# Altium footprint library Module.PcbLib: 21 footprints (part 1 of 2)
Each footprint in its own frame and in the unit in brackets; x right, y up, seen from the top. Pads: shape width x height; smd on the part's side, far side on the other; paste and mask are expansions set on the pad; w line width, h text height; cw(c..) or ccw(c..) is an arc to the next point about the centre after c.
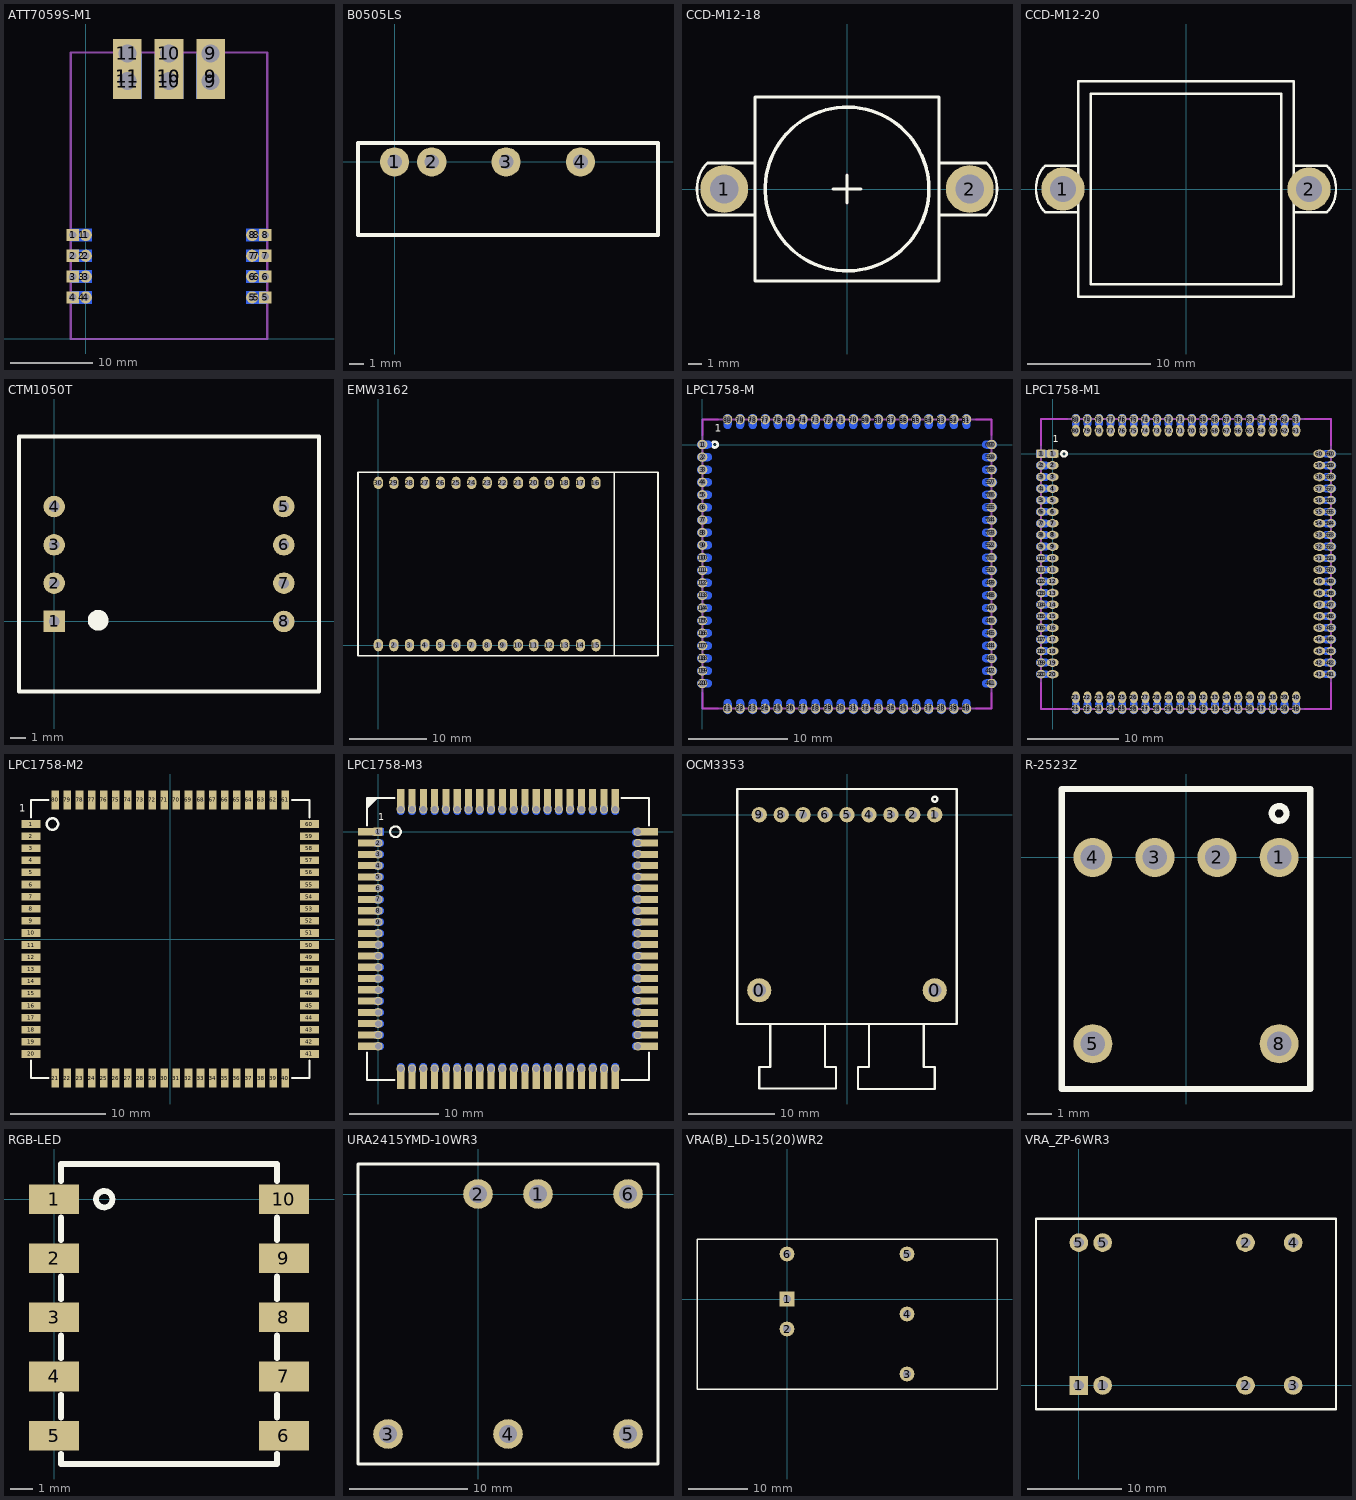
[diagram p0: the footprints below, top view; thin cyan lines are the x and y axes]

## ATT7059S-M1 [mm]
pads (36):
  rect 1.5x1.5 hole 0.9: 1(-1.6,12.7) 2(-1.6,10.16) 3(-1.6,7.62) 4(-1.6,5.08) 5(21.92,5.08) 6(21.92,7.62) 7(21.92,10.16) 8(21.92,12.7)
  rect 2.5x1.5 smd far side: 1(-0.5,12.7) 2(-0.5,10.16) 3(-0.5,7.62) 4(-0.5,5.08) 5(20.82,5.08) 6(20.82,7.62) 7(20.82,10.16) 8(20.82,12.7)
  round 1.5 hole 0.9: 1(0,12.7) 2(0,10.16) 3(0,7.62) 4(0,5.08) 5(20.32,5.08) 6(20.32,7.62) 7(20.32,10.16) 8(20.32,12.7)
  round 3.5 hole 2.2: 9(15.24,31.48) 10(10.16,31.48) 11(5.08,31.48)
  rect 3.5x5.5 smd far side: 9(15.24,32.08) 10(10.16,32.08) 11(5.08,32.08)
  rect 3.5x5.5 smd: 9(15.24,32.08) 10(10.16,32.08) 11(5.08,32.08)
  rect 3.5x3.5 hole 2.2: 9(15.24,34.88) 10(10.16,34.88) 11(5.08,34.88)
Mechanical 1:
  lines w0.254: -1.84,0 22.16,0 22.16,35 -1.84,35 -1.84,0

## B0505LS [mm] "DC-DC 5V-5V B0505LS-1W"
pads (4):
  round 2 hole 1: 1(0,0) 2(2.54,0) 3(7.62,0) 4(12.7,0)
Top Overlay:
  lines w0.254: -2.5,-5 18,-5 18,1.3 -2.5,1.3 -2.5,-5

## CCD-M12-18 [mm] "CCD-M12-18"
pads (2):
  round 3.5 hole 2.1: 1(-9,0) 2(9,0)
Top Overlay:
  circle w0.254: c0,0 r6
  lines w0.2: -6.75,-1.905 -10.23,-1.905 cw(c-8.39,-0.065) -10.992,-0.065 -10.992,0.065 cw(c-8.39,0.065) -10.23,1.905 -6.75,1.905 ; 6.75,1.905 10.23,1.905 cw(c8.39,0.065) 10.992,0.065 10.992,-0.065 cw(c8.39,-0.065) 10.23,-1.905 6.8,-1.905 ; -6.75,-6.75 -6.75,6.75 6.75,6.75 6.75,-6.75 -6.75,-6.75
  lines w0.254: -1,0 1,0 ; 0,-1 0,1

## CCD-M12-20 [mm] "CCD-M12-20"
pads (2):
  round 3.5 hole 2.1: 1(-10,0) 2(10,0)
Top Overlay:
  lines w0.2: -8.75,-1.905 -11.43,-1.905 cw(c-9.59,-0.065) -12.192,-0.065 -12.192,0.065 cw(c-9.59,0.065) -11.43,1.905 -8.75,1.905 ; -7.75,-7.75 -7.75,7.75 7.75,7.75 7.75,-7.75 ; -7.747,-7.747 7.75,-7.747 ; 8.75,-1.905 11.43,-1.905 ccw(c9.59,-0.065) 12.192,-0.065 12.192,0.065 ccw(c9.59,0.065) 11.43,1.905 8.763,1.905 ; -8.75,-8.75 8.75,-8.75 8.75,8.75 -8.75,8.75 -8.75,-8.75

## CTM1050T [mil] "zlg can module"
height 9.5
pads (8):
  rect 56x56 hole 28: 1(0,0)
  round 56 hole 28: 2(0,100) 3(0,200) 4(0,300) 5(600,300) 6(600,200) 7(600,100) 8(600,0)
Top Overlay:
  circle w30: c115,3 r12
  lines w10: -91.73,-182.68 -91.73,482.68 691.73,482.68 691.73,-182.68 -91.73,-182.68

## EMW3162 [mm]
pads (30):
  oval 1.2x1.6 hole 0.8: 1(0,0) 2(2,0) 3(4,0) 4(6,0) 5(8,0) 6(10,0) 7(12,0) 8(14,0) 9(16,0) 10(18,0) 11(20,0) 12(22,0) 13(24,0) 14(26,0) 15(28,0) 16(28,20.88) 17(26,20.88) 18(24,20.88) 19(22,20.88) 20(20,20.88) 21(18,20.88) 22(16,20.88) 23(14,20.88) 24(12,20.88) 25(10,20.88) 26(8,20.88) 27(6,20.88) 28(4,20.88) 29(2,20.88) 30(0,20.88)
Top Overlay:
  lines w0.2: 30.353,-1.37 30.353,22.25 ; -2.62,-1.37 -2.62,22.25 35.98,22.25 35.98,-1.37 -2.62,-1.37
3D body: height 5.6, standoff 0, extent -2.72,-1.47 36.08,22.35

## LPC1758-M [mm] "LPC1758 Module"
pads (160):
  oval 1x0.94 hole 0.7 mask+0.051: 1(0,0) 2(0,-1.27) 3(0,-2.54) 4(0,-3.81) 5(0,-5.08) 6(0,-6.35) 7(0,-7.62) 8(0,-8.89) 9(0,-10.16) 10(0,-11.43) 11(0,-12.7) 12(0,-13.97) 13(0,-15.24) 14(0,-16.51) 15(0,-17.78) 16(0,-19.05) 17(0,-20.32) 18(0,-21.59) 19(0,-22.86) 20(0,-24.13) 41(29.21,-24.13) 42(29.21,-22.86) 43(29.21,-21.59) 44(29.21,-20.32) 45(29.21,-19.05) 46(29.21,-17.78) 47(29.21,-16.51) 48(29.21,-15.24) 49(29.21,-13.97) 50(29.21,-12.7) 51(29.21,-11.43) 52(29.21,-10.16) 53(29.21,-8.89) 54(29.21,-7.62) 55(29.21,-6.35) 56(29.21,-5.08) 57(29.21,-3.81) 58(29.21,-2.54) 59(29.21,-1.27) 60(29.21,0)
  oval 1.5x0.8 smd far side mask+0.051: 1(0.203,0) 2(0.203,-1.27) 3(0.203,-2.54) 4(0.203,-3.81) 5(0.203,-5.08) 6(0.203,-6.35) 7(0.203,-7.62) 8(0.203,-8.89) 9(0.203,-10.16) 10(0.203,-11.43) 11(0.203,-12.7) 12(0.203,-13.97) 13(0.203,-15.24) 14(0.203,-16.51) 15(0.203,-17.78) 16(0.203,-19.05) 17(0.203,-20.32) 18(0.203,-21.59) 19(0.203,-22.86) 20(0.203,-24.13) 41(29.007,-24.13) 42(29.007,-22.86) 43(29.007,-21.59) 44(29.007,-20.32) 45(29.007,-19.05) 46(29.007,-17.78) 47(29.007,-16.51) 48(29.007,-15.24) 49(29.007,-13.97) 50(29.007,-12.7) 51(29.007,-11.43) 52(29.007,-10.16) 53(29.007,-8.89) 54(29.007,-7.62) 55(29.007,-6.35) 56(29.007,-5.08) 57(29.007,-3.81) 58(29.007,-2.54) 59(29.007,-1.27) 60(29.007,0)
  oval 0.94x1 hole 0.7 mask+0.051: 21(2.54,-26.67) 22(3.81,-26.67) 23(5.08,-26.67) 24(6.35,-26.67) 25(7.62,-26.67) 26(8.89,-26.67) 27(10.16,-26.67) 28(11.43,-26.67) 29(12.7,-26.67) 30(13.97,-26.67) 31(15.24,-26.67) 32(16.51,-26.67) 33(17.78,-26.67) 34(19.05,-26.67) 35(20.32,-26.67) 36(21.59,-26.67) 37(22.86,-26.67) 38(24.13,-26.67) 39(25.4,-26.67) 40(26.67,-26.67) 61(26.67,2.54) 62(25.4,2.54) 63(24.13,2.54) 64(22.86,2.54) 65(21.59,2.54) 66(20.32,2.54) 67(19.05,2.54) 68(17.78,2.54) 69(16.51,2.54) 70(15.24,2.54) 71(13.97,2.54) 72(12.7,2.54) 73(11.43,2.54) 74(10.16,2.54) 75(8.89,2.54) 76(7.62,2.54) 77(6.35,2.54) 78(5.08,2.54) 79(3.81,2.54) 80(2.54,2.54)
  oval 0.8x1.5 smd far side mask+0.051: 21(2.54,-26.467) 22(3.81,-26.467) 23(5.08,-26.467) 24(6.35,-26.467) 25(7.62,-26.467) 26(8.89,-26.467) 27(10.16,-26.467) 28(11.43,-26.467) 29(12.7,-26.467) 30(13.97,-26.467) 31(15.24,-26.467) 32(16.51,-26.467) 33(17.78,-26.467) 34(19.05,-26.467) 35(20.32,-26.467) 36(21.59,-26.467) 37(22.86,-26.467) 38(24.13,-26.467) 39(25.4,-26.467) 40(26.67,-26.467) 61(26.67,2.337) 62(25.4,2.337) 63(24.13,2.337) 64(22.86,2.337) 65(21.59,2.337) 66(20.32,2.337) 67(19.05,2.337) 68(17.78,2.337) 69(16.51,2.337) 70(15.24,2.337) 71(13.97,2.337) 72(12.7,2.337) 73(11.43,2.337) 74(10.16,2.337) 75(8.89,2.337) 76(7.62,2.337) 77(6.35,2.337) 78(5.08,2.337) 79(3.81,2.337) 80(2.54,2.337)
Top Overlay:
  circle w0.254: c1.25,0 r0.3
  text "1" at 1.27,1.27 h0.76
Keep-Out Layer:
  lines w0.2: 0,-25.07 0,-26.67 1.6,-26.67 ; 0,0.94 0,2.54 1.6,2.54 ; 27.61,-26.67 29.21,-26.67 29.21,-25.07 ; 27.61,2.54 29.21,2.54 29.21,0.94
Mechanical 1:
  lines w0.2: 0,-26.67 0,2.54 29.21,2.54 29.21,-26.67 0,-26.67

## LPC1758-M1 [mm] "LPC1758 Module"
pads (320):
  rect 1x0.94 hole 0.7 mask+0.051: 1(-1.27,0) 1(0,0)
  rect 1.5x0.8 smd far side mask+0.051: 1(-1.067,0)
  rect 1.3x0.8 smd mask+0.051: 1(0,0)
  oval 1x0.94 hole 0.7 mask+0.051: 2(-1.27,-1.27) 2(0,-1.27) 3(-1.27,-2.54) 3(0,-2.54) 4(-1.27,-3.81) 4(0,-3.81) 5(-1.27,-5.08) 5(0,-5.08) 6(-1.27,-6.35) 6(0,-6.35) 7(-1.27,-7.62) 7(0,-7.62) 8(-1.27,-8.89) 8(0,-8.89) 9(-1.27,-10.16) 9(0,-10.16) 10(-1.27,-11.43) 10(0,-11.43) 11(-1.27,-12.7) 11(0,-12.7) 12(-1.27,-13.97) 12(0,-13.97) 13(-1.27,-15.24) 13(0,-15.24) 14(-1.27,-16.51) 14(0,-16.51) 15(-1.27,-17.78) 15(0,-17.78) 16(-1.27,-19.05) 16(0,-19.05) 17(-1.27,-20.32) 17(0,-20.32) 18(-1.27,-21.59) 18(0,-21.59) 19(-1.27,-22.86) 19(0,-22.86) 20(-1.27,-24.13) 20(0,-24.13) 41(29.21,-24.13) 41(30.48,-24.13) 42(29.21,-22.86) 42(30.48,-22.86) 43(29.21,-21.59) 43(30.48,-21.59) 44(29.21,-20.32) 44(30.48,-20.32) 45(29.21,-19.05) 45(30.48,-19.05) 46(29.21,-17.78) 46(30.48,-17.78) 47(29.21,-16.51) 47(30.48,-16.51) 48(29.21,-15.24) 48(30.48,-15.24) 49(29.21,-13.97) 49(30.48,-13.97) 50(29.21,-12.7) 50(30.48,-12.7) 51(29.21,-11.43) 51(30.48,-11.43) 52(29.21,-10.16) 52(30.48,-10.16) 53(29.21,-8.89) 53(30.48,-8.89) 54(29.21,-7.62) 54(30.48,-7.62) 55(29.21,-6.35) 55(30.48,-6.35) 56(29.21,-5.08) 56(30.48,-5.08) 57(29.21,-3.81) 57(30.48,-3.81) 58(29.21,-2.54) 58(30.48,-2.54) 59(29.21,-1.27) 59(30.48,-1.27) 60(29.21,0) 60(30.48,0)
  oval 1.5x0.8 smd far side mask+0.051: 2(-1.067,-1.27) 3(-1.067,-2.54) 4(-1.067,-3.81) 5(-1.067,-5.08) 6(-1.067,-6.35) 7(-1.067,-7.62) 8(-1.067,-8.89) 9(-1.067,-10.16) 10(-1.067,-11.43) 11(-1.067,-12.7) 12(-1.067,-13.97) 13(-1.067,-15.24) 14(-1.067,-16.51) 15(-1.067,-17.78) 16(-1.067,-19.05) 17(-1.067,-20.32) 18(-1.067,-21.59) 19(-1.067,-22.86) 20(-1.067,-24.13) 41(30.277,-24.13) 42(30.277,-22.86) 43(30.277,-21.59) 44(30.277,-20.32) 45(30.277,-19.05) 46(30.277,-17.78) 47(30.277,-16.51) 48(30.277,-15.24) 49(30.277,-13.97) 50(30.277,-12.7) 51(30.277,-11.43) 52(30.277,-10.16) 53(30.277,-8.89) 54(30.277,-7.62) 55(30.277,-6.35) 56(30.277,-5.08) 57(30.277,-3.81) 58(30.277,-2.54) 59(30.277,-1.27) 60(30.277,0)
  oval 1.3x0.8 smd mask+0.051: 2(0,-1.27) 3(0,-2.54) 4(0,-3.81) 5(0,-5.08) 6(0,-6.35) 7(0,-7.62) 8(0,-8.89) 9(0,-10.16) 10(0,-11.43) 11(0,-12.7) 12(0,-13.97) 13(0,-15.24) 14(0,-16.51) 15(0,-17.78) 16(0,-19.05) 17(0,-20.32) 18(0,-21.59) 19(0,-22.86) 20(0,-24.13) 41(29.21,-24.13) 42(29.21,-22.86) 43(29.21,-21.59) 44(29.21,-20.32) 45(29.21,-19.05) 46(29.21,-17.78) 47(29.21,-16.51) 48(29.21,-15.24) 49(29.21,-13.97) 50(29.21,-12.7) 51(29.21,-11.43) 52(29.21,-10.16) 53(29.21,-8.89) 54(29.21,-7.62) 55(29.21,-6.35) 56(29.21,-5.08) 57(29.21,-3.81) 58(29.21,-2.54) 59(29.21,-1.27) 60(29.21,0)
  oval 0.94x1 hole 0.7 mask+0.051: 21(2.54,-27.94) 21(2.54,-26.67) 22(3.81,-27.94) 22(3.81,-26.67) 23(5.08,-27.94) 23(5.08,-26.67) 24(6.35,-27.94) 24(6.35,-26.67) 25(7.62,-27.94) 25(7.62,-26.67) 26(8.89,-27.94) 26(8.89,-26.67) 27(10.16,-27.94) 27(10.16,-26.67) 28(11.43,-27.94) 28(11.43,-26.67) 29(12.7,-27.94) 29(12.7,-26.67) 30(13.97,-27.94) 30(13.97,-26.67) 31(15.24,-27.94) 31(15.24,-26.67) 32(16.51,-27.94) 32(16.51,-26.67) 33(17.78,-27.94) 33(17.78,-26.67) 34(19.05,-27.94) 34(19.05,-26.67) 35(20.32,-27.94) 35(20.32,-26.67) 36(21.59,-27.94) 36(21.59,-26.67) 37(22.86,-27.94) 37(22.86,-26.67) 38(24.13,-27.94) 38(24.13,-26.67) 39(25.4,-27.94) 39(25.4,-26.67) 40(26.67,-27.94) 40(26.67,-26.67) 61(26.67,2.54) 61(26.67,3.81) 62(25.4,2.54) 62(25.4,3.81) 63(24.13,2.54) 63(24.13,3.81) 64(22.86,2.54) 64(22.86,3.81) 65(21.59,2.54) 65(21.59,3.81) 66(20.32,2.54) 66(20.32,3.81) 67(19.05,2.54) 67(19.05,3.81) 68(17.78,2.54) 68(17.78,3.81) 69(16.51,2.54) 69(16.51,3.81) 70(15.24,2.54) 70(15.24,3.81) 71(13.97,2.54) 71(13.97,3.81) 72(12.7,2.54) 72(12.7,3.81) 73(11.43,2.54) 73(11.43,3.81) 74(10.16,2.54) 74(10.16,3.81) 75(8.89,2.54) 75(8.89,3.81) 76(7.62,2.54) 76(7.62,3.81) 77(6.35,2.54) 77(6.35,3.81) 78(5.08,2.54) 78(5.08,3.81) 79(3.81,2.54) 79(3.81,3.81) 80(2.54,2.54) 80(2.54,3.81)
  oval 0.8x1.5 smd far side mask+0.051: 21(2.54,-27.737) 22(3.81,-27.737) 23(5.08,-27.737) 24(6.35,-27.737) 25(7.62,-27.737) 26(8.89,-27.737) 27(10.16,-27.737) 28(11.43,-27.737) 29(12.7,-27.737) 30(13.97,-27.737) 31(15.24,-27.737) 32(16.51,-27.737) 33(17.78,-27.737) 34(19.05,-27.737) 35(20.32,-27.737) 36(21.59,-27.737) 37(22.86,-27.737) 38(24.13,-27.737) 39(25.4,-27.737) 40(26.67,-27.737) 61(26.67,3.607) 62(25.4,3.607) 63(24.13,3.607) 64(22.86,3.607) 65(21.59,3.607) 66(20.32,3.607) 67(19.05,3.607) 68(17.78,3.607) 69(16.51,3.607) 70(15.24,3.607) 71(13.97,3.607) 72(12.7,3.607) 73(11.43,3.607) 74(10.16,3.607) 75(8.89,3.607) 76(7.62,3.607) 77(6.35,3.607) 78(5.08,3.607) 79(3.81,3.607) 80(2.54,3.607)
  oval 0.8x1.3 smd mask+0.051: 21(2.54,-26.67) 22(3.81,-26.67) 23(5.08,-26.67) 24(6.35,-26.67) 25(7.62,-26.67) 26(8.89,-26.67) 27(10.16,-26.67) 28(11.43,-26.67) 29(12.7,-26.67) 30(13.97,-26.67) 31(15.24,-26.67) 32(16.51,-26.67) 33(17.78,-26.67) 34(19.05,-26.67) 35(20.32,-26.67) 36(21.59,-26.67) 37(22.86,-26.67) 38(24.13,-26.67) 39(25.4,-26.67) 40(26.67,-26.67) 61(26.67,2.54) 62(25.4,2.54) 63(24.13,2.54) 64(22.86,2.54) 65(21.59,2.54) 66(20.32,2.54) 67(19.05,2.54) 68(17.78,2.54) 69(16.51,2.54) 70(15.24,2.54) 71(13.97,2.54) 72(12.7,2.54) 73(11.43,2.54) 74(10.16,2.54) 75(8.89,2.54) 76(7.62,2.54) 77(6.35,2.54) 78(5.08,2.54) 79(3.81,2.54) 80(2.54,2.54)
Top Overlay:
  circle w0.254: c1.25,0 r0.3
  text "1" at 0,1.27 h0.76
Keep-Out Layer:
  lines w0.2: -1.27,-25.07 -1.27,-27.94 1.6,-27.94 ; -1.27,0.94 -1.27,3.81 1.6,3.81 ; 27.61,-27.94 30.48,-27.94 30.48,-25.07 ; 27.61,3.81 30.48,3.81 30.48,0.94
Mechanical 1:
  lines w0.2: -1.27,-27.94 30.48,-27.94 30.48,3.81 -1.27,3.81 -1.27,-27.94

## LPC1758-M2 [mm] "LPC1758 Module"
pads (80):
  rect 2x0.8 smd mask+0.051: 1(-14.605,12.065) 2(-14.605,10.795) 3(-14.605,9.525) 4(-14.605,8.255) 5(-14.605,6.985) 6(-14.605,5.715) 7(-14.605,4.445) 8(-14.605,3.175) 9(-14.605,1.905) 10(-14.605,0.635) 11(-14.605,-0.635) 12(-14.605,-1.905) 13(-14.605,-3.175) 14(-14.605,-4.445) 15(-14.605,-5.715) 16(-14.605,-6.985) 17(-14.605,-8.255) 18(-14.605,-9.525) 19(-14.605,-10.795) 20(-14.605,-12.065) 41(14.605,-12.065) 42(14.605,-10.795) 43(14.605,-9.525) 44(14.605,-8.255) 45(14.605,-6.985) 46(14.605,-5.715) 47(14.605,-4.445) 48(14.605,-3.175) 49(14.605,-1.905) 50(14.605,-0.635) 51(14.605,0.635) 52(14.605,1.905) 53(14.605,3.175) 54(14.605,4.445) 55(14.605,5.715) 56(14.605,6.985) 57(14.605,8.255) 58(14.605,9.525) 59(14.605,10.795) 60(14.605,12.065)
  rect 0.8x2 smd mask+0.051: 21(-12.065,-14.605) 22(-10.795,-14.605) 23(-9.525,-14.605) 24(-8.255,-14.605) 25(-6.985,-14.605) 26(-5.715,-14.605) 27(-4.445,-14.605) 28(-3.175,-14.605) 29(-1.905,-14.605) 30(-0.635,-14.605) 31(0.635,-14.605) 32(1.905,-14.605) 33(3.175,-14.605) 34(4.445,-14.605) 35(5.715,-14.605) 36(6.985,-14.605) 37(8.255,-14.605) 38(9.525,-14.605) 39(10.795,-14.605) 40(12.065,-14.605) 61(12.065,14.605) 62(10.795,14.605) 63(9.525,14.605) 64(8.255,14.605) 65(6.985,14.605) 66(5.715,14.605) 67(4.445,14.605) 68(3.175,14.605) 69(1.905,14.605) 70(0.635,14.605) 71(-0.635,14.605) 72(-1.905,14.605) 73(-3.175,14.605) 74(-4.445,14.605) 75(-5.715,14.605) 76(-6.985,14.605) 77(-8.255,14.605) 78(-9.525,14.605) 79(-10.795,14.605) 80(-12.065,14.605)
Top Overlay:
  circle w0.254: c-12.365,12.065 r0.6
  lines w0.2: -14.605,-12.755 -14.605,-14.605 -12.755,-14.605 ; -14.605,12.765 -14.605,14.605 -12.755,14.605 ; 12.745,-14.605 14.605,-14.605 14.605,-12.755 ; 12.745,14.605 14.605,14.605 14.605,12.765
  text "1" at -15.875,13.335 h0.76

## LPC1758-M3 [mm] "LPC1758 Module"
pads (240):
  rect 2x0.8 smd mask+0.051: 1(-1.27,0) 2(-1.27,-1.27) 3(-1.27,-2.54) 4(-1.27,-3.81) 5(-1.27,-5.08) 6(-1.27,-6.35) 7(-1.27,-7.62) 8(-1.27,-8.89) 9(-1.27,-10.16) 10(-1.27,-11.43) 11(-1.27,-12.7) 12(-1.27,-13.97) 13(-1.27,-15.24) 14(-1.27,-16.51) 15(-1.27,-17.78) 16(-1.27,-19.05) 17(-1.27,-20.32) 18(-1.27,-21.59) 19(-1.27,-22.86) 20(-1.27,-24.13) 41(30.48,-24.13) 42(30.48,-22.86) 43(30.48,-21.59) 44(30.48,-20.32) 45(30.48,-19.05) 46(30.48,-17.78) 47(30.48,-16.51) 48(30.48,-15.24) 49(30.48,-13.97) 50(30.48,-12.7) 51(30.48,-11.43) 52(30.48,-10.16) 53(30.48,-8.89) 54(30.48,-7.62) 55(30.48,-6.35) 56(30.48,-5.08) 57(30.48,-3.81) 58(30.48,-2.54) 59(30.48,-1.27) 60(30.48,0)
  rect 1x0.94 hole 0.7 mask+0.051: 1(0,0)
  rect 1.3x0.8 smd far side mask+0.051: 1(0,0)
  oval 1x0.94 hole 0.7 mask+0.051: 2(0,-1.27) 3(0,-2.54) 4(0,-3.81) 5(0,-5.08) 6(0,-6.35) 7(0,-7.62) 8(0,-8.89) 9(0,-10.16) 10(0,-11.43) 11(0,-12.7) 12(0,-13.97) 13(0,-15.24) 14(0,-16.51) 15(0,-17.78) 16(0,-19.05) 17(0,-20.32) 18(0,-21.59) 19(0,-22.86) 20(0,-24.13) 41(29.21,-24.13) 42(29.21,-22.86) 43(29.21,-21.59) 44(29.21,-20.32) 45(29.21,-19.05) 46(29.21,-17.78) 47(29.21,-16.51) 48(29.21,-15.24) 49(29.21,-13.97) 50(29.21,-12.7) 51(29.21,-11.43) 52(29.21,-10.16) 53(29.21,-8.89) 54(29.21,-7.62) 55(29.21,-6.35) 56(29.21,-5.08) 57(29.21,-3.81) 58(29.21,-2.54) 59(29.21,-1.27) 60(29.21,0)
  oval 1.3x0.8 smd far side mask+0.051: 2(0,-1.27) 3(0,-2.54) 4(0,-3.81) 5(0,-5.08) 6(0,-6.35) 7(0,-7.62) 8(0,-8.89) 9(0,-10.16) 10(0,-11.43) 11(0,-12.7) 12(0,-13.97) 13(0,-15.24) 14(0,-16.51) 15(0,-17.78) 16(0,-19.05) 17(0,-20.32) 18(0,-21.59) 19(0,-22.86) 20(0,-24.13) 41(29.21,-24.13) 42(29.21,-22.86) 43(29.21,-21.59) 44(29.21,-20.32) 45(29.21,-19.05) 46(29.21,-17.78) 47(29.21,-16.51) 48(29.21,-15.24) 49(29.21,-13.97) 50(29.21,-12.7) 51(29.21,-11.43) 52(29.21,-10.16) 53(29.21,-8.89) 54(29.21,-7.62) 55(29.21,-6.35) 56(29.21,-5.08) 57(29.21,-3.81) 58(29.21,-2.54) 59(29.21,-1.27) 60(29.21,0)
  rect 0.8x2 smd mask+0.051: 21(2.54,-27.94) 22(3.81,-27.94) 23(5.08,-27.94) 24(6.35,-27.94) 25(7.62,-27.94) 26(8.89,-27.94) 27(10.16,-27.94) 28(11.43,-27.94) 29(12.7,-27.94) 30(13.97,-27.94) 31(15.24,-27.94) 32(16.51,-27.94) 33(17.78,-27.94) 34(19.05,-27.94) 35(20.32,-27.94) 36(21.59,-27.94) 37(22.86,-27.94) 38(24.13,-27.94) 39(25.4,-27.94) 40(26.67,-27.94) 61(26.67,3.81) 62(25.4,3.81) 63(24.13,3.81) 64(22.86,3.81) 65(21.59,3.81) 66(20.32,3.81) 67(19.05,3.81) 68(17.78,3.81) 69(16.51,3.81) 70(15.24,3.81) 71(13.97,3.81) 72(12.7,3.81) 73(11.43,3.81) 74(10.16,3.81) 75(8.89,3.81) 76(7.62,3.81) 77(6.35,3.81) 78(5.08,3.81) 79(3.81,3.81) 80(2.54,3.81)
  oval 0.94x1 hole 0.7 mask+0.051: 21(2.54,-26.67) 22(3.81,-26.67) 23(5.08,-26.67) 24(6.35,-26.67) 25(7.62,-26.67) 26(8.89,-26.67) 27(10.16,-26.67) 28(11.43,-26.67) 29(12.7,-26.67) 30(13.97,-26.67) 31(15.24,-26.67) 32(16.51,-26.67) 33(17.78,-26.67) 34(19.05,-26.67) 35(20.32,-26.67) 36(21.59,-26.67) 37(22.86,-26.67) 38(24.13,-26.67) 39(25.4,-26.67) 40(26.67,-26.67) 61(26.67,2.54) 62(25.4,2.54) 63(24.13,2.54) 64(22.86,2.54) 65(21.59,2.54) 66(20.32,2.54) 67(19.05,2.54) 68(17.78,2.54) 69(16.51,2.54) 70(15.24,2.54) 71(13.97,2.54) 72(12.7,2.54) 73(11.43,2.54) 74(10.16,2.54) 75(8.89,2.54) 76(7.62,2.54) 77(6.35,2.54) 78(5.08,2.54) 79(3.81,2.54) 80(2.54,2.54)
  oval 0.8x1.3 smd far side mask+0.051: 21(2.54,-26.67) 22(3.81,-26.67) 23(5.08,-26.67) 24(6.35,-26.67) 25(7.62,-26.67) 26(8.89,-26.67) 27(10.16,-26.67) 28(11.43,-26.67) 29(12.7,-26.67) 30(13.97,-26.67) 31(15.24,-26.67) 32(16.51,-26.67) 33(17.78,-26.67) 34(19.05,-26.67) 35(20.32,-26.67) 36(21.59,-26.67) 37(22.86,-26.67) 38(24.13,-26.67) 39(25.4,-26.67) 40(26.67,-26.67) 61(26.67,2.54) 62(25.4,2.54) 63(24.13,2.54) 64(22.86,2.54) 65(21.59,2.54) 66(20.32,2.54) 67(19.05,2.54) 68(17.78,2.54) 69(16.51,2.54) 70(15.24,2.54) 71(13.97,2.54) 72(12.7,2.54) 73(11.43,2.54) 74(10.16,2.54) 75(8.89,2.54) 76(7.62,2.54) 77(6.35,2.54) 78(5.08,2.54) 79(3.81,2.54) 80(2.54,2.54)
Top Overlay:
  circle w0.254: c1.94,0 r0.6
  region: -1.27,3.81 0,3.81 -1.27,2.54
  lines w0.2: -1.27,-24.82 -1.27,-27.94 1.85,-27.94 ; -1.27,0.7 -1.27,3.81 1.85,3.81 ; 27.35,-27.94 30.48,-27.94 30.48,-24.82 ; 27.36,3.81 30.48,3.81 30.48,0.7
  text "1" at 0,1.27 h0.76

## OCM3353 [mil] "OCM3353"
pads (11):
  round 110 hole 63: 0(-400,-800) 0(400,-800)
  round 70 hole 36: 1(400,0) 2(300,0) 3(200,0) 4(100,0) 5(0,0) 6(-100,0) 7(-200,0) 8(-300,0) 9(-400,0)
Top Overlay:
  circle w10: c400,70.87 r11.81
  lines w10: -350,-953.54 -350,-1150 -400,-1150 -400,-1248.03 -100,-1248.03 -51.97,-1248.03 -50,-1246.06 -50,-1150 -100,-1150 -100,-953.54 ; 100,-953.54 100,-1150 50,-1150 50,-1250 400,-1250 400,-1150 350,-1150 350,-953.54 ; 500,-953.54 -500,-953.54 -500,117.32 500,117.32 500,-950

## R-2523Z [mm] "R-2523Z"
pads (6):
  round 1.6 hole 1: 1(3.81,0) 2(1.27,0) 3(-1.27,0) 4(-3.81,0) 5(-3.81,-7.62) 8(3.81,-7.62)
Top Overlay:
  circle w0.254: c3.81,1.8 r0.3
  lines w0.254: -5.08,-9.47 5.08,-9.47 5.08,2.8 -5.08,2.8 -5.08,-9.47

## RGB-LED [mm] "RGB-LED"
pads (10):
  rect 2.2x1.3 smd: 1(0,0) 2(0,-2.6) 3(0,-5.2) 4(0,-7.8) 5(0,-10.4) 6(10.1,-10.4) 7(10.1,-7.8) 8(10.1,-5.2) 9(10.1,-2.6) 10(10.1,0)
Top Overlay:
  circle w0.254: c2.2,0 r0.361
  lines w0.254: 0.3,-11.2 0.3,-11.65 9.8,-11.65 9.8,-11.2 ; 0.3,-9.6 0.3,-8.6 ; 0.3,-7 0.3,-6 ; 0.3,-4.4 0.3,-3.4 ; 0.3,-1.8 0.3,-0.8 ; 0.3,0.8 0.3,1.55 9.8,1.55 9.8,0.8 ; 9.8,-9.6 9.8,-8.6 ; 9.8,-7 9.8,-6 ; 9.8,-4.4 9.8,-3.4 ; 9.8,-1.8 9.8,-0.8

## URA2415YMD-10WR3 [mm] "URA2415YMD-10WR3"
pads (6):
  round 2.5 hole 1.5: 1(5.08,0) 2(0,0) 3(-7.62,-20.32) 4(2.54,-20.32) 5(12.7,-20.32) 6(12.7,0)
Top Overlay:
  lines w0.254: -10.16,-22.86 15.24,-22.86 15.24,2.54 -10.16,2.54 -10.16,-22.86

## VRA(B)_LD-15(20)WR2 [mm] "DC/DC Power Module 15W  20W MORNSUN VRA(B)_LD-15(20)WR2"
pads (6):
  rect 2.5x2.5 hole 1.3: 1(0,0)
  round 2.5 hole 1.3: 2(0,-5.08) 3(20.32,-12.7) 4(20.32,-2.54) 5(20.32,7.62) 6(0,7.62)
Top Overlay:
  lines w0.254: -15.24,-15.24 -15.24,10.16 35.56,10.16 35.56,-15.24 -15.24,-15.24

## VRA_ZP-6WR3 [mm] "DC/DC Power Module  MORNSUN VRA_ZP-6WR3"
pads (8):
  rect 2x2 hole 1.1: 1(0,0)
  round 2 hole 1.1: 1(2.54,0) 2(17.78,0) 2(17.78,15.24) 3(22.86,0) 4(22.86,15.24) 5(0,15.24) 5(2.54,15.24)
Top Overlay:
  lines w0.254: -4.57,-2.54 -4.57,17.78 27.43,17.78 27.43,-2.54 -4.57,-2.54